# EAGLE library part FCI-1010359_MICRO_USB (library toyotune)
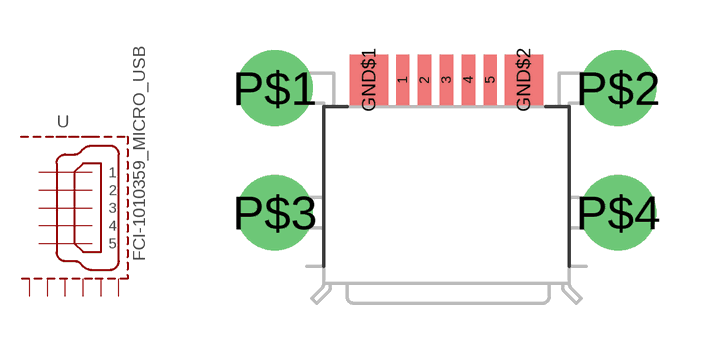
[diagram p57: symbol with the pads of FCI_10103593_MICRO_USB; footprint FCI_10103593_MICRO_USB]

Designator prefix -

## FCI-1010359_MICRO_USB  [FCI_10103593_MICRO_USB]
1  1  in
2  2  in
3  3  in
4  4  in
5  5  in
GND$1  GND1
GND$2  GND2
P$1  GND3
P$2  GND4
P$3  GND5
P$4  GND6

## Footprint FCI_10103593_MICRO_USB (pad centres in mm)
smd 0.4 x 1.5: 1 -1.3,1.65; 2 -0.65,1.65; 3 0,1.65; 4 0.65,1.65; 5 1.3,1.65
smd 1.15 x 1.5: GND$1 -2.3,1.65; GND$2 2.3,1.65
drill 1.5: P$1 -5.1,1.4; P$2 5.1,1.4; P$3 -5.1,-2.3; P$4 5.1,-2.3